# Altium integrated library Control_Board.IntLib: 34 symbols (part 3 of 3)
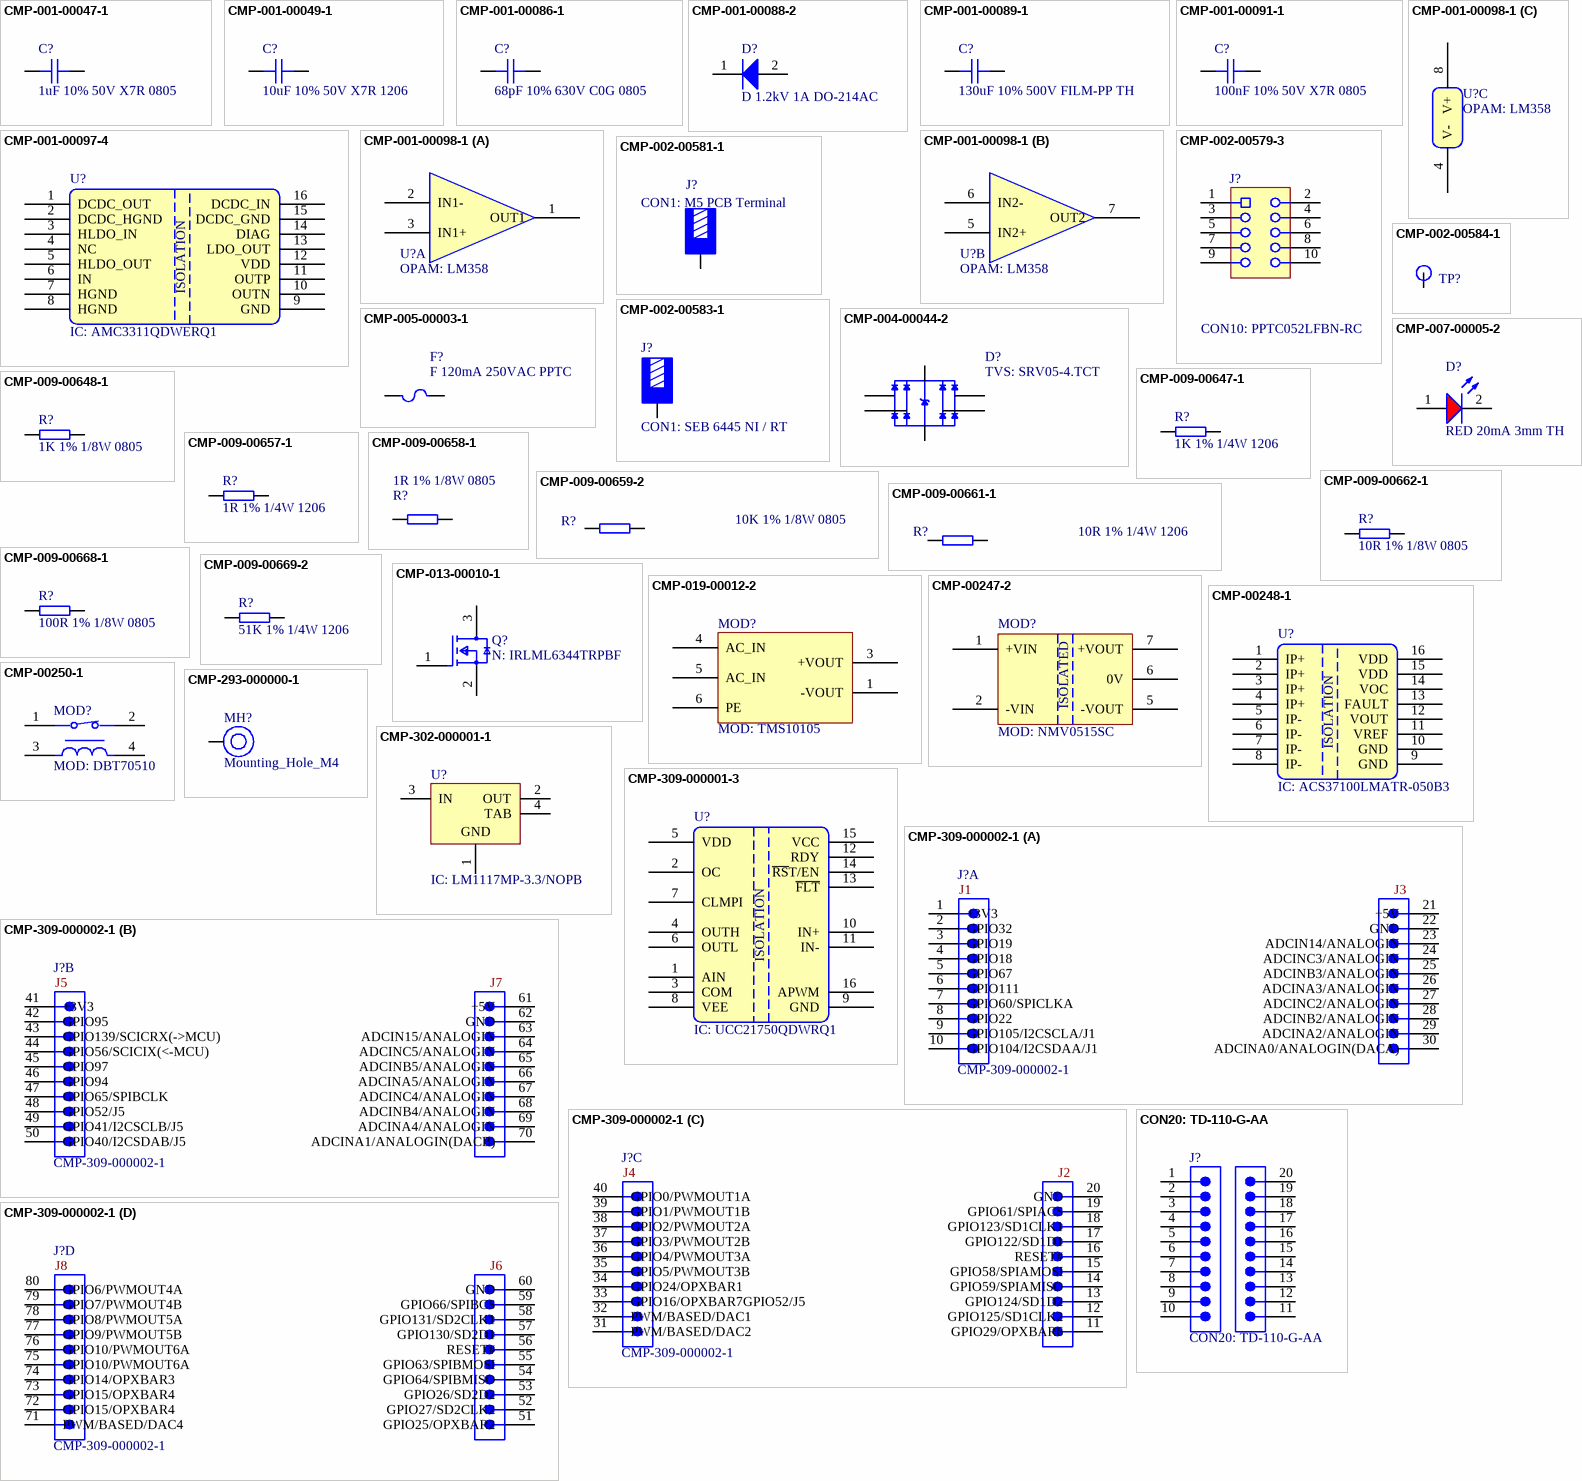
[diagram p2: symbols CMP-001-00047-1 to CON20: TD-110-G-AA]

## CMP-309-000002-1
designator J?
F28379D LaunchPad™ development kit for C2000™ Delfino™ MCU; Manufacturer: Texas Instruments; Manufacturer Part Number: LAUNCHXL-F28379D; Manufacturer Lifecycle Status: ACTIVE; Core Architecture: C2000; Number of Bits: 32; Category: DSPs - Digital Signal Processors; Pricing: 1=46.8 (USD); Lifecycle Status: Production; Pins: 0; REACH SVHC: No; ComponentLink1URL: https://octopart.com:443/opatz8j6/c1?t=_qCjX2Wo53PZarO6BjGz1pzxvZLeCrbbVJACmNqqTvR3TEBVwYoGW-DXq5l11NPCyEyQmG2wH9P15DbxEwR5ZZHsyk33RBSXwUdEtCa7jNxIhSrryjNLEF-Vgre1piZzQz56aD2MK6QuEQpUtDRfErQs-_Fz2k06mrjKwHn2nJAT_YV2HxfigPUyr5srGnEy9lLlrNqGpcCNex5yYxUMkQXiFlqqbITrV8bFvInxDQ88sUGODQNtS64O8hVEwNdGa20kbIjdoqOBoaE1JHzrO901WwG08850-S2bXz9NSqERxo83_Q49v-k_oL6cPW0CHjrP4NMWOrNhAcehFalWX6jDFn3RYJBbH4wBv6PGCMA2lz1wT9CaKpwnDvEQJ5WJVjDawH1R7TR419iNQ7OBATXWz7I&src-supplier=Texas+Instruments; ComponentLink1Description: https://octopart.com:443/opatz8j6/c1?t=_qCjX2Wo53PZarO6BjGz1pzxvZLeCrbbVJACmNqqTvR3TEBVwYoGW-DXq5l11NPCyEyQmG2wH9P15DbxEwR5ZZHsyk33RBSXwUdEtCa7jNxIhSrryjNLEF-Vgre1piZzQz56aD2MK6QuEQpUtDRfErQs-_Fz2k06mrjKwHn2nJAT_YV2HxfigPUyr5srGnEy9lLlrNqGpcCNex5yYxUMkQXiFlqqbITrV8bFvInxDQ88sUGODQNtS64O8hVEwNdGa20kbIjdoqOBoaE1JHzrO901WwG08850-S2bXz9NSqERxo83_Q49v-k_oL6cPW0CHjrP4NMWOrNhAcehFalWX6jDFn3RYJBbH4wBv6PGCMA2lz1wT9CaKpwnDvEQJ5WJVjDawH1R7TR419iNQ7OBATXWz7I&src-supplier=Texas+Instruments; ComponentLink2URL: https://datasheet.octopart.com:443/LAUNCHXL-F28379D-Texas-Instruments-datasheet-152741484.pdf?src-supplier=ODG+(Origin+Data+Global); ComponentLink2Description: https://datasheet.octopart.com:443/LAUNCHXL-F28379D-Texas-Instruments-datasheet-152741484.pdf?src-supplier=ODG+(Origin+Data+Global); ComponentLink3URL: https://datasheet.octopart.com:443/LAUNCHXL-F28379D-Texas-Instruments-datasheet-67294821.pdf?src-supplier=element14+APAC; ComponentLink3Description: https://datasheet.octopart.com:443/LAUNCHXL-F28379D-Texas-Instruments-datasheet-67294821.pdf?src-supplier=element14+APAC; ComponentLink4URL: https://datasheet.octopart.com:443/LAUNCHXL-F28379D-Texas-Instruments-datasheet-103777603.pdf?src-supplier=TME; ComponentLink4Description: https://datasheet.octopart.com:443/LAUNCHXL-F28379D-Texas-Instruments-datasheet-103777603.pdf?src-supplier=TME; ComponentLink5URL: http://sigma.octopart.com:80/reach_statement/Texas-Instruments-company-64.pdf?src-supplier=Compliance+Statements; ComponentLink5Description: http://sigma.octopart.com:80/reach_statement/Texas-Instruments-company-64.pdf?src-supplier=Compliance+Statements; ComponentLink6URL: http://sigma.octopart.com:80/conflict_mineral_statement/Texas-Instruments-company-63.pdf?src-supplier=Compliance+Statements; ComponentLink6Description: http://sigma.octopart.com:80/conflict_mineral_statement/Texas-Instruments-company-63.pdf?src-supplier=Compliance+Statements; ComponentLink7URL: https://octopart.com:443/opatz8j6/c1?t=vmM5mUkauSidLfiIfngj-A2eh6SjcyeYQ_18RxJ-XgRT5PFLOln341s3Da68ti8m6yMC8JyHE5YCQ8oxmljwW8O_iXgryuhhxmjCmpHtdr4VDwYtt48MgbKj-slNB3Nj0mMH04CuEmFmw_fUmAswlWbCu5ZMAg5-39dPO4IMZ0IkEkvJqqV3lhWtLIq7mSnDMHN61-x5vEZotwGXpDkhXVPdiQUwVwsuDPl99fprXnUSUtNA7saaZFRkXjg1cuiRBuIcQzdWjl70NXHJ-qE7RXDui7Y0LCAu6IeHkA&src-supplier=Compliance+Statements; ComponentLink7Description: https://octopart.com:443/opatz8j6/c1?t=vmM5mUkauSidLfiIfngj-A2eh6SjcyeYQ_18RxJ-XgRT5PFLOln341s3Da68ti8m6yMC8JyHE5YCQ8oxmljwW8O_iXgryuhhxmjCmpHtdr4VDwYtt48MgbKj-slNB3Nj0mMH04CuEmFmw_fUmAswlWbCu5ZMAg5-39dPO4IMZ0IkEkvJqqV3lhWtLIq7mSnDMHN61-x5vEZotwGXpDkhXVPdiQUwVwsuDPl99fprXnUSUtNA7saaZFRkXjg1cuiRBuIcQzdWjl70NXHJ-qE7RXDui7Y0LCAu6IeHkA&src-supplier=Compliance+Statements; Quantity: 4; Design Item ID: CON80: LAUNCHXL-F28379D; Source: MasterLibrary_SCH.SchLib; Component Type: Capacitors
footprint LAUNCHXL-F28379D
part A pins: 1 +3V3, 2 GPIO32, 3 GPIO19, 4 GPIO18, 5 GPIO67, 6 GPIO111, 7 GPIO60/SPICLKA, 8 GPIO22, 9 GPIO105/I2CSCLA/J1, 10 GPIO104/I2CSDAA/J1, 21 +5V, 22 GND, 23 ADCIN14/ANALOGIN, 24 ADCINC3/ANALOGIN, 25 ADCINB3/ANALOGIN, 26 ADCINA3/ANALOGIN, 27 ADCINC2/ANALOGIN, 28 ADCINB2/ANALOGIN, 29 ADCINA2/ANALOGIN, 30 ADCINA0/ANALOGIN(DACA)
part B pins: 41 +3V3, 42 GPIO95, 43 GPIO139/SCICRX(->MCU), 44 GPIO56/SCICIX(<-MCU), 45 GPIO97, 46 GPIO94, 47 GPIO65/SPIBCLK, 48 GPIO52/J5, 49 GPIO41/I2CSCLB/J5, 50 GPIO40/I2CSDAB/J5, 61 +5V, 62 GND, 63 ADCIN15/ANALOGIN, 64 ADCINC5/ANALOGIN, 65 ADCINB5/ANALOGIN, 66 ADCINA5/ANALOGIN, 67 ADCINC4/ANALOGIN, 68 ADCINB4/ANALOGIN, 69 ADCINA4/ANALOGIN, 70 ADCINA1/ANALOGIN(DACB)
part C pins: 11 GPIO29/OPXBAR6, 12 GPIO125/SD1CLK2, 13 GPIO124/SD1D2, 14 GPIO59/SPIAMISO, 15 GPIO58/SPIAMOSI, 16 RESET#, 17 GPIO122/SD1D1, 18 GPIO123/SD1CLK1, 19 GPIO61/SPIACS, 20 GND, 31 PWM/BASED/DAC2, 32 PWM/BASED/DAC1, 33 GPIO16/OPXBAR7GPIO52/J5, 34 GPIO24/OPXBAR1, 35 GPIO5/PWMOUT3B, 36 GPIO4/PWMOUT3A, 37 GPIO3/PWMOUT2B, 38 GPIO2/PWMOUT2A, 39 GPIO1/PWMOUT1B, 40 GPIO0/PWMOUT1A
part D pins: 51 GPIO25/OPXBAR2, 52 GPIO27/SD2CLK2, 53 GPIO26/SD2D2, 54 GPIO64/SPIBMISO, 55 GPIO63/SPIBMOSI, 56 RESET#, 57 GPIO130/SD2D1, 58 GPIO131/SD2CLK1, 59 GPIO66/SPIBCS, 60 GND, 71 PWM/BASED/DAC4, 72 GPIO15/OPXBAR4, 73 GPIO15/OPXBAR4, 74 GPIO14/OPXBAR3, 75 GPIO10/PWMOUT6A, 76 GPIO10/PWMOUT6A, 77 GPIO9/PWMOUT5B, 78 GPIO8/PWMOUT5A, 79 GPIO7/PWMOUT4B, 80 GPIO6/PWMOUT4A
part A text: J1; J3
part B text: J5; J7
part C text: J4; J2
part D text: J8; J6

## CON20: TD-110-G-AA
designator J?  (mechanical)
Pin Header, Precision Machined Terminal, Board-to-Board, 2.54 mm, 2 Rows, 20 Contacts, Through Hole; Manufacturer: Samtec; Manufacturer Lifecycle Status: PRODUCTION; Number of Contacts: 20; Supplier: DigiKey; Supplier Part Number: TD-110-G-AA-ND; Manufacturer Part Number: TD-110-G-AA; RoHS: Compliant; Category: Headers and Wire Housings; Stock: 586; Pricing: 1=4.66, 25=4.21, 50=3.92, 100=3.73, 500=2.96, 1000=2.70002, 2500=2.6604 (USD); Contact Material: Gold, Nickel; Contact Plating: Gold; Lifecycle Status: Production; Max Operating Temperature: 125°C; Min Operating Temperature: -55°C; Mounting Technology: Through Hole; Number of Rows: 2; REACH SVHC: No; Termination: Through Hole; ComponentLink1URL: https://datasheet.octopart.com:443/TD-110-G-AA-Samtec-datasheet-158277479.pdf?src-supplier=Upverter; ComponentLink1Description: https://datasheet.octopart.com:443/TD-110-G-AA-Samtec-datasheet-158277479.pdf?src-supplier=Upverter; ComponentLink2URL: https://sigma.octopart.com:443/138897476/technical_drawing/Samtec-TD-110-G-AA.pdf?src-supplier=Upverter; ComponentLink2Description: https://sigma.octopart.com:443/138897476/technical_drawing/Samtec-TD-110-G-AA.pdf?src-supplier=Upverter; ComponentLink3URL: https://datasheet.octopart.com:443/TD-110-G-AA-Samtec-datasheet-97310231.pdf?src-supplier=Samtec; ComponentLink3Description: https://datasheet.octopart.com:443/TD-110-G-AA-Samtec-datasheet-97310231.pdf?src-supplier=Samtec; ComponentLink4URL: https://datasheet.octopart.com:443/TD-110-G-AA-Samtec-datasheet-150856305.pdf?src-supplier=Sager+Electronics; ComponentLink4Description: https://datasheet.octopart.com:443/TD-110-G-AA-Samtec-datasheet-150856305.pdf?src-supplier=Sager+Electronics; ComponentLink5URL: https://datasheet.octopart.com:443/TD-110-G-AA-Samtec-datasheet-129019458.pdf?src-supplier=Sager+Electronics; ComponentLink5Description: https://datasheet.octopart.com:443/TD-110-G-AA-Samtec-datasheet-129019458.pdf?src-supplier=Sager+Electronics; ComponentLink6URL: https://datasheet.octopart.com:443/TD-110-G-AA-Samtec-datasheet-179090728.pdf?src-supplier=Sager+Electronics; ComponentLink6Description: https://datasheet.octopart.com:443/TD-110-G-AA-Samtec-datasheet-179090728.pdf?src-supplier=Sager+Electronics; ComponentLink7URL: https://datasheet.octopart.com:443/TD-110-G-AA-Samtec-datasheet-41643126.pdf?src-supplier=Farnell; ComponentLink7Description: https://datasheet.octopart.com:443/TD-110-G-AA-Samtec-datasheet-41643126.pdf?src-supplier=Farnell; ComponentLink8URL: https://datasheet.octopart.com:443/TD-110-G-AA-Samtec-datasheet-37173861.pdf?src-supplier=Farnell; ComponentLink8Description: https://datasheet.octopart.com:443/TD-110-G-AA-Samtec-datasheet-37173861.pdf?src-supplier=Farnell; ComponentLink9URL: https://datasheet.octopart.com:443/TD-110-G-AA-Samtec-datasheet-8466599.pdf?src-supplier=Farnell; ComponentLink9Description: https://datasheet.octopart.com:443/TD-110-G-AA-Samtec-datasheet-8466599.pdf?src-supplier=Farnell; ComponentLink10URL: https://datasheet.octopart.com:443/TD-110-G-AA-Samtec-datasheet-21214653.pdf?src-supplier=Newark; ComponentLink10Description: https://datasheet.octopart.com:443/TD-110-G-AA-Samtec-datasheet-21214653.pdf?src-supplier=Newark
footprint CON20: TD-110-G-AA (.100" DOUBLE ROW SCREW MACHINE T)
pins: 1, 2, 3, 4, 5, 6, 7, 8, 9, 10, 11 70, 12, 13, 14, 15, 16, 17, 18, 19, 20